# EAGLE library part OPAMP (library Shohei)
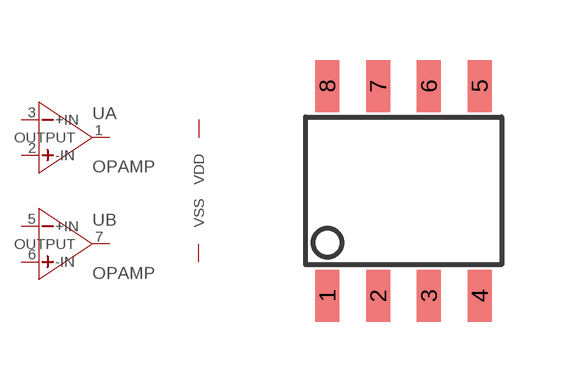
[diagram p20: symbol with the pads of SOIC8; footprint SOIC8]

Designator prefix -; gates A=GP_OPAMP B=GP_OPAMP G$3=POWER

## OPAMPMCP6492  [SOIC8]
1  A:OUTPUT
2  A:-IN
3  A:+IN
4  G$3:VSS
5  B:+IN
6  B:-IN
7  B:OUTPUT
8  G$3:VDD

## Footprint SOIC8 (pad centres in mm)
smd 0.6 x 1.3: 1 -1.905,-2.625; 2 -0.635,-2.625; 3 0.635,-2.625; 4 1.905,-2.625; 5 1.905,2.625; 6 0.635,2.625; 7 -0.635,2.625; 8 -1.905,2.625